# EAGLE library part AT90*8534 (library atmel)
MICROCONTROLLER 8 Kbytes FLASH 512 bytes EEPROM 256 bytes SRAM 6-channel 10-bit A/D
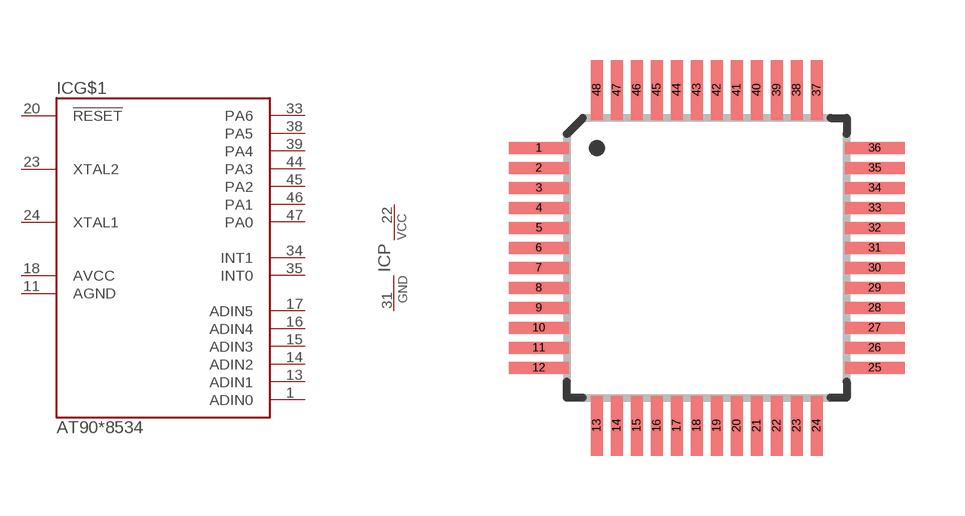
[diagram p25: symbol with the pads of QFP48_7X7_0.50; footprint QFP48_7X7_0.50]

Designator prefix IC; gates G$1=15-I/O-3 P=PWR

## AT90C8534A  [QFP48_7X7_0.50]
1  G$1:ADIN0  in
11  G$1:AGND  in
13  G$1:ADIN1  in
14  G$1:ADIN2  in
15  G$1:ADIN3  in
16  G$1:ADIN4  in
17  G$1:ADIN5  in
18  G$1:AVCC  in
20  G$1:!RESET  in
22  P:VCC  pwr
23  G$1:XTAL2
24  G$1:XTAL1
31  P:GND  pwr
33  G$1:PA6
34  G$1:INT1  in
35  G$1:INT0  in
38  G$1:PA5
39  G$1:PA4
44  G$1:PA3
45  G$1:PA2
46  G$1:PA1
47  G$1:PA0

## Footprint QFP48_7X7_0.50 (pad centres in mm)
Thin Plasic Quad Flat Package, 7mm x 7mm body, 0.50mm lead pitch JEDEC: ATMEL Code:
smd 1.5 x 0.3: 1 -4.2,2.75; 2 -4.2,2.25; 3 -4.2,1.75; 4 -4.2,1.25; 5 -4.2,0.75; 6 -4.2,0.25; 7 -4.2,-0.25; 8 -4.2,-0.75; 9 -4.2,-1.25; 10 -4.2,-1.75; 11 -4.2,-2.25; 12 -4.2,-2.75; 25 4.2,-2.75; 26 4.2,-2.25; 27 4.2,-1.75; 28 4.2,-1.25; 29 4.2,-0.75; 30 4.2,-0.25; 31 4.2,0.25; 32 4.2,0.75; 33 4.2,1.25; 34 4.2,1.75; 35 4.2,2.25; 36 4.2,2.75
smd 0.3 x 1.5: 13 -2.75,-4.2; 14 -2.25,-4.2; 15 -1.75,-4.2; 16 -1.25,-4.2; 17 -0.75,-4.2; 18 -0.25,-4.2; 19 0.25,-4.2; 20 0.75,-4.2; 21 1.25,-4.2; 22 1.75,-4.2; 23 2.25,-4.2; 24 2.75,-4.2; 37 2.75,4.2; 38 2.25,4.2; 39 1.75,4.2; 40 1.25,4.2; 41 0.75,4.2; 42 0.25,4.2; 43 -0.25,4.2; 44 -0.75,4.2; 45 -1.25,4.2; 46 -1.75,4.2; 47 -2.25,4.2; 48 -2.75,4.2